# Altium footprint library FP-SOT23-5LD-PL-1-IPC_A.PcbLib: 1 footprints
Each footprint in its own frame and in the unit in brackets; x right, y up, seen from the top. Pads: shape width x height; smd on the part's side, far side on the other; paste and mask are expansions set on the pad; w line width, h text height; cw(c..) or ccw(c..) is an arc to the next point about the centre after c.
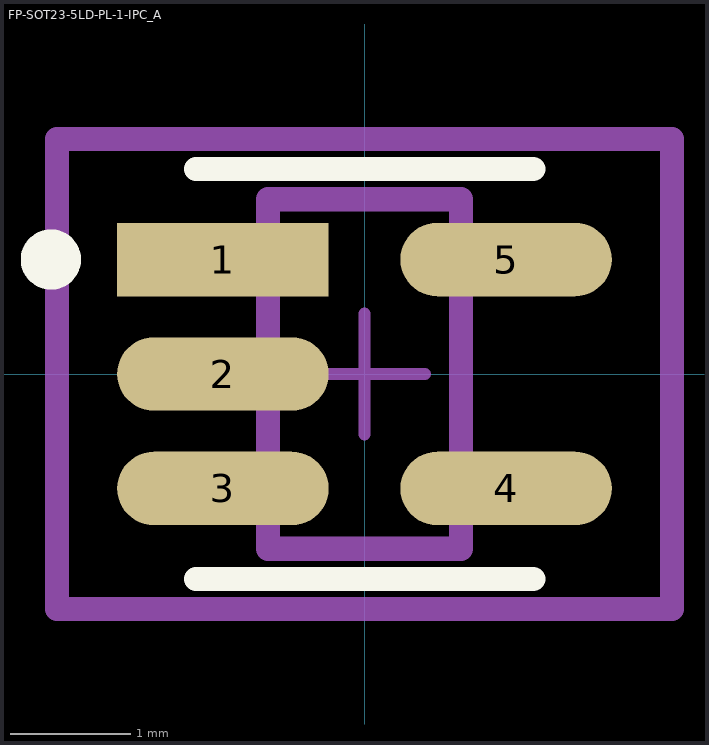
[diagram p0: the footprint, top view; thin cyan lines are the x and y axes]

## FP-SOT23-5LD-PL-1-IPC_A [mm]
pads (5):
  rect 1.756x0.61 smd paste+0 mask+0: 1(-1.175,0.95)
  rrect100% 1.756x0.61 smd paste+0 mask+0: 2(-1.175,0) 3(-1.175,-0.95) 4(1.175,-0.95) 5(1.175,0.95)
Top Overlay:
  circle w0.25: c-2.603,0.95 r0.125
  lines w0.2: -1.4,-1.7 1.4,-1.7 ; -1.4,1.7 1.4,1.7
Mechanical 5:
  lines w0.2: -2.553,-1.95 -2.553,1.95 2.553,1.95 2.553,-1.95 -2.553,-1.95
  text ".Designator" at -2.565,2.296 h1
Mechanical 13:
  lines w0.2: -0.8,-1.45 -0.8,1.45 0.8,1.45 0.8,-1.45 -0.8,-1.45
Mechanical 15:
  lines w0.2: -2.553,-1.95 -2.553,1.95 2.553,1.95 2.553,-1.95 -2.553,-1.95
Mechanical 16:
  lines w0.1: -0.5,0 0.5,0 ; 0,-0.5 0,0.5
3D body "IC_Microchip_MIC7300YM5-TR_eec.STEP": height 0.25, standoff 0, extent -2.553,-1.95 2.553,1.95